# EAGLE library part GY-521-VERT (library GY-521)
Check availability <https://pricing.snapeda.com/parts/GY-521/GODREAM%20FORDREAM%20CO.%2C%20LIMITED/view-part?ref=eda>
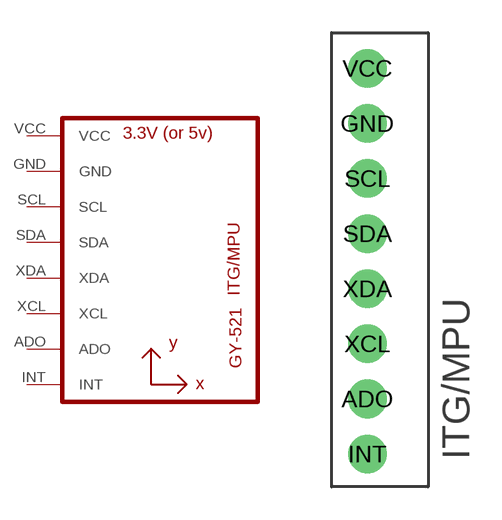
[diagram p1: symbol with the pads of GY-521-VERT; footprint GY-521-VERT]

Designator prefix U

## GY-521-VERT  [GY-521-VERT]
ADO  ADO
GND  GND
INT  INT
SCL  SCL
SDA  SDA
VCC  VCC
XCL  XCL
XDA  XDA

## Footprint GY-521-VERT (pad centres in mm)
drill 1.016 pad 1.778: ADO 1.651,4.064; GND 1.651,16.764; INT 1.651,1.524; SCL 1.651,14.224; SDA 1.651,11.684; VCC 1.651,19.304; XCL 1.651,6.604; XDA 1.651,9.144